# Altium footprint library THT_Zener_Diode_Pcb.PcbLib: 2 footprints
Each footprint in its own frame and in the unit in brackets; x right, y up, seen from the top. Pads: shape width x height; smd on the part's side, far side on the other; paste and mask are expansions set on the pad; w line width, h text height; cw(c..) or ccw(c..) is an arc to the next point about the centre after c.
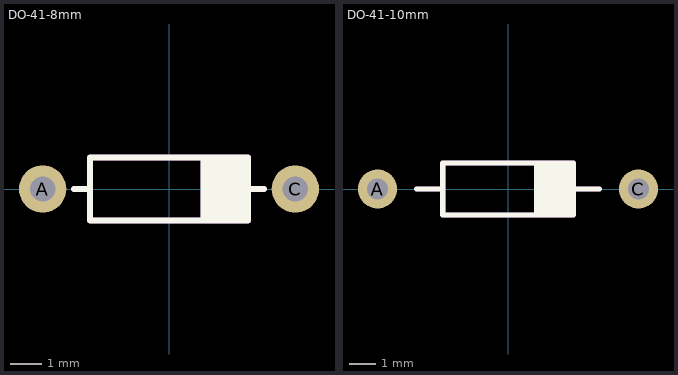
[diagram p0: the footprints below, top view; thin cyan lines are the x and y axes]

## DO-41-8mm [mm]
pads (2):
  round 1.5 hole 0.8: A(-4,0) C(4,0)
Top Overlay:
  rectangle: 1,-1 2.5,1
  lines w0.2: -3,0 -2.5,0 ; 2.5,0 3,0 ; -2.5,-1 2.5,-1 2.5,1 -2.5,1 -2.5,-1
Mechanical 29:
  rectangle: 1,-1 2.5,1
  lines w0.2: -3,0 -2.5,0 ; 2.5,0 3,0 ; -2.5,-1 2.5,-1 2.5,1 -2.5,1 -2.5,-1
3D body "DO-41-300mil.step": height 2.52, standoff -2, extent -4.2,-1.201 4.2,1.201

## DO-41-10mm [mm]
pads (2):
  round 1.5 hole 0.8: A(-5,0) C(5,0)
Top Overlay:
  rectangle: 1,-1 2.5,1
  lines w0.2: -3.5,0 -2.5,0 ; 2.5,0 3.5,0 ; -2.5,-1 -2.5,1 2.5,1 2.5,-1 -2.5,-1
Mechanical 29:
  rectangle: 1,-1 2.5,1
  lines w0.2: -3.5,0 -2.5,0 ; 2.5,0 3.5,0 ; -2.5,-1 2.5,-1 2.5,1 -2.5,1 -2.5,-1
3D body "DO-41-400mil.step": height 2.52, standoff -2, extent -5.47,-1.201 5.47,1.201